# Altium footprint library memory-idt.PCBLIB: 54 footprints (part 1 of 4)
Each footprint in its own frame and in the unit in brackets; x right, y up, seen from the top. Pads: shape width x height; smd on the part's side, far side on the other; paste and mask are expansions set on the pad; w line width, h text height; cw(c..) or ccw(c..) is an arc to the next point about the centre after c.
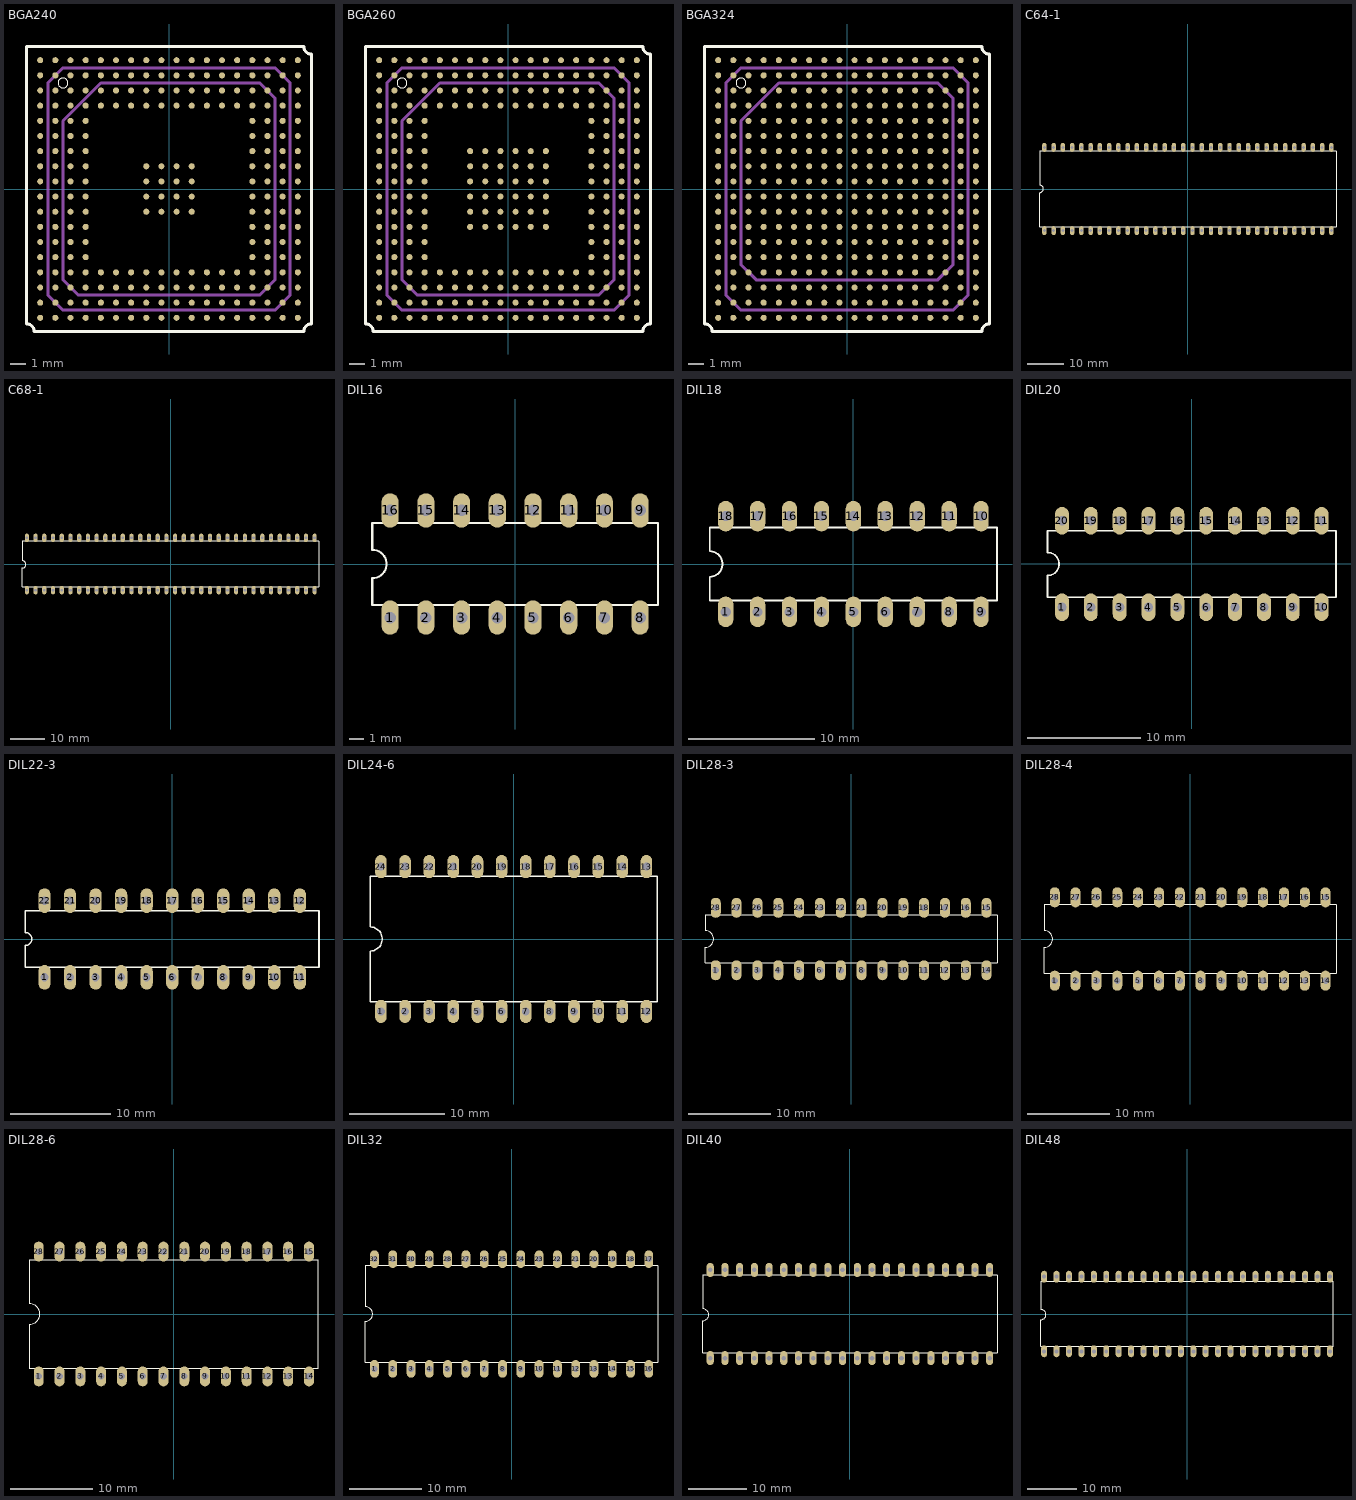
[diagram p0: the footprints below, top view; thin cyan lines are the x and y axes]

## BGA240 [mil]
pads (240):
  rrect100% 15.75x15.75 smd: A1(-334.65,334.65) A2(-295.28,334.65) A3(-255.91,334.65) A4(-216.54,334.65) A5(-177.17,334.65) A6(-137.8,334.65) A7(-98.43,334.65) A8(-59.06,334.65) A9(-19.69,334.65) A10(19.69,334.65) A11(59.06,334.65) A12(98.43,334.65) A13(137.8,334.65) A14(177.17,334.65) A15(216.54,334.65) A16(255.91,334.65) A17(295.28,334.65) A18(334.65,334.65) B1(-334.65,295.28) B2(-295.28,295.28) B3(-255.91,295.28) B4(-216.54,295.28) B5(-177.17,295.28) B6(-137.8,295.28) B7(-98.43,295.28) B8(-59.06,295.28) B9(-19.69,295.28) B10(19.69,295.28) B11(59.06,295.28) B12(98.43,295.28) B13(137.8,295.28) B14(177.17,295.28) B15(216.54,295.28) B16(255.91,295.28) B17(295.28,295.28) B18(334.65,295.28) C1(-334.65,255.91) C2(-295.28,255.91) C3(-255.91,255.91) C4(-216.54,255.91) C5(-177.17,255.91) C6(-137.8,255.91) C7(-98.43,255.91) C8(-59.06,255.91) C9(-19.69,255.91) C10(19.69,255.91) C11(59.06,255.91) C12(98.43,255.91) C13(137.8,255.91) C14(177.17,255.91) C15(216.54,255.91) C16(255.91,255.91) C17(295.28,255.91) C18(334.65,255.91) D1(-334.65,216.54) D2(-295.28,216.54) D3(-255.91,216.54) D4(-216.54,216.54) D5(-177.17,216.54) D6(-137.8,216.54) D7(-98.43,216.54) D8(-59.06,216.54) D9(-19.69,216.54) D10(19.69,216.54) D11(59.06,216.54) D12(98.43,216.54) D13(137.8,216.54) D14(177.17,216.54) D15(216.54,216.54) D16(255.91,216.54) D17(295.28,216.54) D18(334.65,216.54) E1(-334.65,177.17) E2(-295.28,177.17) E3(-255.91,177.17) E4(-216.54,177.17) E15(216.54,177.17) E16(255.91,177.17) E17(295.28,177.17) E18(334.65,177.17) F1(-334.65,137.8) F2(-295.28,137.8) F3(-255.91,137.8) F4(-216.54,137.8) F15(216.54,137.8) F16(255.91,137.8) F17(295.28,137.8) F18(334.65,137.8) G1(-334.65,98.43) G2(-295.28,98.43) G3(-255.91,98.43) G4(-216.54,98.43) G15(216.54,98.43) G16(255.91,98.43) G17(295.28,98.43) G18(334.65,98.43) H1(-334.65,59.06) H2(-295.28,59.06) H3(-255.91,59.06) H4(-216.54,59.06) H8(-59.06,59.06) H9(-19.69,59.06) H10(19.69,59.06) H11(59.06,59.06) H15(216.54,59.06) H16(255.91,59.06) H17(295.28,59.06) H18(334.65,59.06) J1(-334.65,19.69) J2(-295.28,19.69) J3(-255.91,19.69) J4(-216.54,19.69) J8(-59.06,19.69) J9(-19.69,19.69) J10(19.69,19.69) J11(59.06,19.69) J15(216.54,19.69) J16(255.91,19.69) J17(295.28,19.69) J18(334.65,19.69) K1(-334.65,-19.69) K2(-295.28,-19.69) K3(-255.91,-19.69) K4(-216.54,-19.69) K8(-59.06,-19.69) K9(-19.69,-19.69) K10(19.69,-19.69) K11(59.06,-19.69) K15(216.54,-19.69) K16(255.91,-19.69) K17(295.28,-19.69) K18(334.65,-19.69) L1(-334.65,-59.06) L2(-295.28,-59.06) L3(-255.91,-59.06) L4(-216.54,-59.06) L8(-59.06,-59.06) L9(-19.69,-59.06) L10(19.69,-59.06) L11(59.06,-59.06) L15(216.54,-59.06) L16(255.91,-59.06) L17(295.28,-59.06) L18(334.65,-59.06) M1(-334.65,-98.43) M2(-295.28,-98.43) M3(-255.91,-98.43) M4(-216.54,-98.43) M15(216.54,-98.43) M16(255.91,-98.43) M17(295.28,-98.43) M18(334.65,-98.43) N1(-334.65,-137.8) N2(-295.28,-137.8) N3(-255.91,-137.8) N4(-216.54,-137.8) N15(216.54,-137.8) N16(255.91,-137.8) N17(295.28,-137.8) N18(334.65,-137.8) P1(-334.65,-177.17) P2(-295.28,-177.17) P3(-255.91,-177.17) P4(-216.54,-177.17) P15(216.54,-177.17) P16(255.91,-177.17) P17(295.28,-177.17) P18(334.65,-177.17) R1(-334.65,-216.54) R2(-295.28,-216.54) R3(-255.91,-216.54) R4(-216.54,-216.54) R5(-177.17,-216.54) R6(-137.8,-216.54) R7(-98.43,-216.54) R8(-59.06,-216.54) R9(-19.69,-216.54) R10(19.69,-216.54) R11(59.06,-216.54) R12(98.43,-216.54) R13(137.8,-216.54) R14(177.17,-216.54) R15(216.54,-216.54) R16(255.91,-216.54) R17(295.28,-216.54) R18(334.65,-216.54) T1(-334.65,-255.91) T2(-295.28,-255.91) T3(-255.91,-255.91) T4(-216.54,-255.91) T5(-177.17,-255.91) T6(-137.8,-255.91) T7(-98.43,-255.91) T8(-59.06,-255.91) T9(-19.69,-255.91) T10(19.69,-255.91) T11(59.06,-255.91) T12(98.43,-255.91) T13(137.8,-255.91) T14(177.17,-255.91) T15(216.54,-255.91) T16(255.91,-255.91) T17(295.28,-255.91) T18(334.65,-255.91) U1(-334.65,-295.28) U2(-295.28,-295.28) U3(-255.91,-295.28) U4(-216.54,-295.28) U5(-177.17,-295.28) U6(-137.8,-295.28) U7(-98.43,-295.28) U8(-59.06,-295.28) U9(-19.69,-295.28) U10(19.69,-295.28) U11(59.06,-295.28) U12(98.43,-295.28) U13(137.8,-295.28) U14(177.17,-295.28) U15(216.54,-295.28) U16(255.91,-295.28) U17(295.28,-295.28) U18(334.65,-295.28) V1(-334.65,-334.65) V2(-295.28,-334.65) V3(-255.91,-334.65) V4(-216.54,-334.65) V5(-177.17,-334.65) V6(-137.8,-334.65) V7(-98.43,-334.65) V8(-59.06,-334.65) V9(-19.69,-334.65) V10(19.69,-334.65) V11(59.06,-334.65) V12(98.43,-334.65) V13(137.8,-334.65) V14(177.17,-334.65) V15(216.54,-334.65) V16(255.91,-334.65) V17(295.28,-334.65) V18(334.65,-334.65)
Top Overlay:
  circle w0: c-275.59,275.59 r12.83
  lines w8: -370.08,-350.39 -370.08,370.08 350.39,370.08 ccw(c370.08,370.08) 370.08,350.39 370.08,-350.39 ccw(c370.08,-370.08) 350.39,-370.08 -350.39,-370.08 ccw(c-370.08,-370.08) -370.08,-350.39
Top Solder:
  drawing of 240 lines, arcs and shapes, not listed
Mechanical 16:
  lines w8: -314.96,-275.59 -314.96,275.59 -275.59,314.96 275.59,314.96 314.96,275.59 314.96,-275.59 275.59,-314.96 -275.59,-314.96 -314.96,-275.59 ; -275.59,-236.22 -275.59,177.17 -177.17,275.59 236.22,275.59 275.59,236.22 275.59,-236.22 236.22,-275.59 -236.22,-275.59 -275.59,-236.22

## BGA260 [mil]
pads (260):
  rrect100% 15.75x15.75 smd: A1(-334.65,334.65) A2(-295.28,334.65) A3(-255.91,334.65) A4(-216.54,334.65) A5(-177.17,334.65) A6(-137.8,334.65) A7(-98.43,334.65) A8(-59.06,334.65) A9(-19.69,334.65) A10(19.69,334.65) A11(59.06,334.65) A12(98.43,334.65) A13(137.8,334.65) A14(177.17,334.65) A15(216.54,334.65) A16(255.91,334.65) A17(295.28,334.65) A18(334.65,334.65) B1(-334.65,295.28) B2(-295.28,295.28) B3(-255.91,295.28) B4(-216.54,295.28) B5(-177.17,295.28) B6(-137.8,295.28) B7(-98.43,295.28) B8(-59.06,295.28) B9(-19.69,295.28) B10(19.69,295.28) B11(59.06,295.28) B12(98.43,295.28) B13(137.8,295.28) B14(177.17,295.28) B15(216.54,295.28) B16(255.91,295.28) B17(295.28,295.28) B18(334.65,295.28) C1(-334.65,255.91) C2(-295.28,255.91) C3(-255.91,255.91) C4(-216.54,255.91) C5(-177.17,255.91) C6(-137.8,255.91) C7(-98.43,255.91) C8(-59.06,255.91) C9(-19.69,255.91) C10(19.69,255.91) C11(59.06,255.91) C12(98.43,255.91) C13(137.8,255.91) C14(177.17,255.91) C15(216.54,255.91) C16(255.91,255.91) C17(295.28,255.91) C18(334.65,255.91) D1(-334.65,216.54) D2(-295.28,216.54) D3(-255.91,216.54) D4(-216.54,216.54) D5(-177.17,216.54) D6(-137.8,216.54) D7(-98.43,216.54) D8(-59.06,216.54) D9(-19.69,216.54) D10(19.69,216.54) D11(59.06,216.54) D12(98.43,216.54) D13(137.8,216.54) D14(177.17,216.54) D15(216.54,216.54) D16(255.91,216.54) D17(295.28,216.54) D18(334.65,216.54) E1(-334.65,177.17) E2(-295.28,177.17) E3(-255.91,177.17) E4(-216.54,177.17) E15(216.54,177.17) E16(255.91,177.17) E17(295.28,177.17) E18(334.65,177.17) F1(-334.65,137.8) F2(-295.28,137.8) F3(-255.91,137.8) F4(-216.54,137.8) F15(216.54,137.8) F16(255.91,137.8) F17(295.28,137.8) F18(334.65,137.8) G1(-334.65,98.43) G2(-295.28,98.43) G3(-255.91,98.43) G4(-216.54,98.43) G7(-98.43,98.43) G8(-59.06,98.43) G9(-19.69,98.43) G10(19.69,98.43) G11(59.06,98.43) G12(98.43,98.43) G15(216.54,98.43) G16(255.91,98.43) G17(295.28,98.43) G18(334.65,98.43) H1(-334.65,59.06) H2(-295.28,59.06) H3(-255.91,59.06) H4(-216.54,59.06) H7(-98.43,59.06) H8(-59.06,59.06) H9(-19.69,59.06) H10(19.69,59.06) H11(59.06,59.06) H12(98.43,59.06) H15(216.54,59.06) H16(255.91,59.06) H17(295.28,59.06) H18(334.65,59.06) J1(-334.65,19.69) J2(-295.28,19.69) J3(-255.91,19.69) J4(-216.54,19.69) J7(-98.43,19.69) J8(-59.06,19.69) J9(-19.69,19.69) J10(19.69,19.69) J11(59.06,19.69) J12(98.43,19.69) J15(216.54,19.69) J16(255.91,19.69) J17(295.28,19.69) J18(334.65,19.69) K1(-334.65,-19.69) K2(-295.28,-19.69) K3(-255.91,-19.69) K4(-216.54,-19.69) K7(-98.43,-19.69) K8(-59.06,-19.69) K9(-19.69,-19.69) K10(19.69,-19.69) K11(59.06,-19.69) K12(98.43,-19.69) K15(216.54,-19.69) K16(255.91,-19.69) K17(295.28,-19.69) K18(334.65,-19.69) L1(-334.65,-59.06) L2(-295.28,-59.06) L3(-255.91,-59.06) L4(-216.54,-59.06) L7(-98.43,-59.06) L8(-59.06,-59.06) L9(-19.69,-59.06) L10(19.69,-59.06) L11(59.06,-59.06) L12(98.43,-59.06) L15(216.54,-59.06) L16(255.91,-59.06) L17(295.28,-59.06) L18(334.65,-59.06) M1(-334.65,-98.43) M2(-295.28,-98.43) M3(-255.91,-98.43) M4(-216.54,-98.43) M7(-98.43,-98.43) M8(-59.06,-98.43) M9(-19.69,-98.43) M10(19.69,-98.43) M11(59.06,-98.43) M12(98.43,-98.43) M15(216.54,-98.43) M16(255.91,-98.43) M17(295.28,-98.43) M18(334.65,-98.43) N1(-334.65,-137.8) N2(-295.28,-137.8) N3(-255.91,-137.8) N4(-216.54,-137.8) N15(216.54,-137.8) N16(255.91,-137.8) N17(295.28,-137.8) N18(334.65,-137.8) P1(-334.65,-177.17) P2(-295.28,-177.17) P3(-255.91,-177.17) P4(-216.54,-177.17) P15(216.54,-177.17) P16(255.91,-177.17) P17(295.28,-177.17) P18(334.65,-177.17) R1(-334.65,-216.54) R2(-295.28,-216.54) R3(-255.91,-216.54) R4(-216.54,-216.54) R5(-177.17,-216.54) R6(-137.8,-216.54) R7(-98.43,-216.54) R8(-59.06,-216.54) R9(-19.69,-216.54) R10(19.69,-216.54) R11(59.06,-216.54) R12(98.43,-216.54) R13(137.8,-216.54) R14(177.17,-216.54) R15(216.54,-216.54) R16(255.91,-216.54) R17(295.28,-216.54) R18(334.65,-216.54) T1(-334.65,-255.91) T2(-295.28,-255.91) T3(-255.91,-255.91) T4(-216.54,-255.91) T5(-177.17,-255.91) T6(-137.8,-255.91) T7(-98.43,-255.91) T8(-59.06,-255.91) T9(-19.69,-255.91) T10(19.69,-255.91) T11(59.06,-255.91) T12(98.43,-255.91) T13(137.8,-255.91) T14(177.17,-255.91) T15(216.54,-255.91) T16(255.91,-255.91) T17(295.28,-255.91) T18(334.65,-255.91) U1(-334.65,-295.28) U2(-295.28,-295.28) U3(-255.91,-295.28) U4(-216.54,-295.28) U5(-177.17,-295.28) U6(-137.8,-295.28) U7(-98.43,-295.28) U8(-59.06,-295.28) U9(-19.69,-295.28) U10(19.69,-295.28) U11(59.06,-295.28) U12(98.43,-295.28) U13(137.8,-295.28) U14(177.17,-295.28) U15(216.54,-295.28) U16(255.91,-295.28) U17(295.28,-295.28) U18(334.65,-295.28) V1(-334.65,-334.65) V2(-295.28,-334.65) V3(-255.91,-334.65) V4(-216.54,-334.65) V5(-177.17,-334.65) V6(-137.8,-334.65) V7(-98.43,-334.65) V8(-59.06,-334.65) V9(-19.69,-334.65) V10(19.69,-334.65) V11(59.06,-334.65) V12(98.43,-334.65) V13(137.8,-334.65) V14(177.17,-334.65) V15(216.54,-334.65) V16(255.91,-334.65) V17(295.28,-334.65) V18(334.65,-334.65)
Top Overlay:
  circle w0: c-275.59,275.59 r12.83
  lines w8: -370.08,-350.39 -370.08,370.08 350.39,370.08 ccw(c370.08,370.08) 370.08,350.39 370.08,-350.39 ccw(c370.08,-370.08) 350.39,-370.08 -350.39,-370.08 ccw(c-370.08,-370.08) -370.08,-350.39
Top Solder:
  drawing of 260 lines, arcs and shapes, not listed
Mechanical 16:
  lines w8: -314.96,-275.59 -314.96,275.59 -275.59,314.96 275.59,314.96 314.96,275.59 314.96,-275.59 275.59,-314.96 -275.59,-314.96 -314.96,-275.59 ; -275.59,-236.22 -275.59,177.17 -177.17,275.59 236.22,275.59 275.59,236.22 275.59,-236.22 236.22,-275.59 -236.22,-275.59 -275.59,-236.22

## BGA324 [mil]
pads (324):
  rrect100% 15.75x15.75 smd: A1(-334.65,334.65) A2(-295.28,334.65) A3(-255.91,334.65) A4(-216.54,334.65) A5(-177.17,334.65) A6(-137.8,334.65) A7(-98.43,334.65) A8(-59.06,334.65) A9(-19.69,334.65) A10(19.69,334.65) A11(59.06,334.65) A12(98.43,334.65) A13(137.8,334.65) A14(177.17,334.65) A15(216.54,334.65) A16(255.91,334.65) A17(295.28,334.65) A18(334.65,334.65) B1(-334.65,295.28) B2(-295.28,295.28) B3(-255.91,295.28) B4(-216.54,295.28) B5(-177.17,295.28) B6(-137.8,295.28) B7(-98.43,295.28) B8(-59.06,295.28) B9(-19.69,295.28) B10(19.69,295.28) B11(59.06,295.28) B12(98.43,295.28) B13(137.8,295.28) B14(177.17,295.28) B15(216.54,295.28) B16(255.91,295.28) B17(295.28,295.28) B18(334.65,295.28) C1(-334.65,255.91) C2(-295.28,255.91) C3(-255.91,255.91) C4(-216.54,255.91) C5(-177.17,255.91) C6(-137.8,255.91) C7(-98.43,255.91) C8(-59.06,255.91) C9(-19.69,255.91) C10(19.69,255.91) C11(59.06,255.91) C12(98.43,255.91) C13(137.8,255.91) C14(177.17,255.91) C15(216.54,255.91) C16(255.91,255.91) C17(295.28,255.91) C18(334.65,255.91) D1(-334.65,216.54) D2(-295.28,216.54) D3(-255.91,216.54) D4(-216.54,216.54) D5(-177.17,216.54) D6(-137.8,216.54) D7(-98.43,216.54) D8(-59.06,216.54) D9(-19.69,216.54) D10(19.69,216.54) D11(59.06,216.54) D12(98.43,216.54) D13(137.8,216.54) D14(177.17,216.54) D15(216.54,216.54) D16(255.91,216.54) D17(295.28,216.54) D18(334.65,216.54) E1(-334.65,177.17) E2(-295.28,177.17) E3(-255.91,177.17) E4(-216.54,177.17) E5(-177.17,177.17) E6(-137.8,177.17) E7(-98.43,177.17) E8(-59.06,177.17) E9(-19.69,177.17) E10(19.69,177.17) E11(59.06,177.17) E12(98.43,177.17) E13(137.8,177.17) E14(177.17,177.17) E15(216.54,177.17) E16(255.91,177.17) E17(295.28,177.17) E18(334.65,177.17) F1(-334.65,137.8) F2(-295.28,137.8) F3(-255.91,137.8) F4(-216.54,137.8) F5(-177.17,137.8) F6(-137.8,137.8) F7(-98.43,137.8) F8(-59.06,137.8) F9(-19.69,137.8) F10(19.69,137.8) F11(59.06,137.8) F12(98.43,137.8) F13(137.8,137.8) F14(177.17,137.8) F15(216.54,137.8) F16(255.91,137.8) F17(295.28,137.8) F18(334.65,137.8) G1(-334.65,98.43) G2(-295.28,98.43) G3(-255.91,98.43) G4(-216.54,98.43) G5(-177.17,98.43) G6(-137.8,98.43) G7(-98.43,98.43) G8(-59.06,98.43) G9(-19.69,98.43) G10(19.69,98.43) G11(59.06,98.43) G12(98.43,98.43) G13(137.8,98.43) G14(177.17,98.43) G15(216.54,98.43) G16(255.91,98.43) G17(295.28,98.43) G18(334.65,98.43) H1(-334.65,59.06) H2(-295.28,59.06) H3(-255.91,59.06) H4(-216.54,59.06) H5(-177.17,59.06) H6(-137.8,59.06) H7(-98.43,59.06) H8(-59.06,59.06) H9(-19.69,59.06) H10(19.69,59.06) H11(59.06,59.06) H12(98.43,59.06) H13(137.8,59.06) H14(177.17,59.06) H15(216.54,59.06) H16(255.91,59.06) H17(295.28,59.06) H18(334.65,59.06) J1(-334.65,19.69) J2(-295.28,19.69) J3(-255.91,19.69) J4(-216.54,19.69) J5(-177.17,19.69) J6(-137.8,19.69) J7(-98.43,19.69) J8(-59.06,19.69) J9(-19.69,19.69) J10(19.69,19.69) J11(59.06,19.69) J12(98.43,19.69) J13(137.8,19.69) J14(177.17,19.69) J15(216.54,19.69) J16(255.91,19.69) J17(295.28,19.69) J18(334.65,19.69) K1(-334.65,-19.69) K2(-295.28,-19.69) K3(-255.91,-19.69) K4(-216.54,-19.69) K5(-177.17,-19.69) K6(-137.8,-19.69) K7(-98.43,-19.69) K8(-59.06,-19.69) K9(-19.69,-19.69) K10(19.69,-19.69) K11(59.06,-19.69) K12(98.43,-19.69) K13(137.8,-19.69) K14(177.17,-19.69) K15(216.54,-19.69) K16(255.91,-19.69) K17(295.28,-19.69) K18(334.65,-19.69) L1(-334.65,-59.06) L2(-295.28,-59.06) L3(-255.91,-59.06) L4(-216.54,-59.06) L5(-177.17,-59.06) L6(-137.8,-59.06) L7(-98.43,-59.06) L8(-59.06,-59.06) L9(-19.69,-59.06) L10(19.69,-59.06) L11(59.06,-59.06) L12(98.43,-59.06) L13(137.8,-59.06) L14(177.17,-59.06) L15(216.54,-59.06) L16(255.91,-59.06) L17(295.28,-59.06) L18(334.65,-59.06) M1(-334.65,-98.43) M2(-295.28,-98.43) M3(-255.91,-98.43) M4(-216.54,-98.43) M5(-177.17,-98.43) M6(-137.8,-98.43) M7(-98.43,-98.43) M8(-59.06,-98.43) M9(-19.69,-98.43) M10(19.69,-98.43) M11(59.06,-98.43) M12(98.43,-98.43) M13(137.8,-98.43) M14(177.17,-98.43) M15(216.54,-98.43) M16(255.91,-98.43) M17(295.28,-98.43) M18(334.65,-98.43) N1(-334.65,-137.8) N2(-295.28,-137.8) N3(-255.91,-137.8) N4(-216.54,-137.8) N5(-177.17,-137.8) N6(-137.8,-137.8) N7(-98.43,-137.8) N8(-59.06,-137.8) N9(-19.69,-137.8) N10(19.69,-137.8) N11(59.06,-137.8) N12(98.43,-137.8) N13(137.8,-137.8) N14(177.17,-137.8) N15(216.54,-137.8) N16(255.91,-137.8) N17(295.28,-137.8) N18(334.65,-137.8) P1(-334.65,-177.17) P2(-295.28,-177.17) P3(-255.91,-177.17) P4(-216.54,-177.17) P5(-177.17,-177.17) P6(-137.8,-177.17) P7(-98.43,-177.17) P8(-59.06,-177.17) P9(-19.69,-177.17) P10(19.69,-177.17) P11(59.06,-177.17) P12(98.43,-177.17) P13(137.8,-177.17) P14(177.17,-177.17) P15(216.54,-177.17) P16(255.91,-177.17) P17(295.28,-177.17) P18(334.65,-177.17) R1(-334.65,-216.54) R2(-295.28,-216.54) R3(-255.91,-216.54) R4(-216.54,-216.54) R5(-177.17,-216.54) R6(-137.8,-216.54) R7(-98.43,-216.54) R8(-59.06,-216.54) R9(-19.69,-216.54) R10(19.69,-216.54) R11(59.06,-216.54) R12(98.43,-216.54) R13(137.8,-216.54) R14(177.17,-216.54) R15(216.54,-216.54) R16(255.91,-216.54) R17(295.28,-216.54) R18(334.65,-216.54) T1(-334.65,-255.91) T2(-295.28,-255.91) T3(-255.91,-255.91) T4(-216.54,-255.91) T5(-177.17,-255.91) T6(-137.8,-255.91) T7(-98.43,-255.91) T8(-59.06,-255.91) T9(-19.69,-255.91) T10(19.69,-255.91) T11(59.06,-255.91) T12(98.43,-255.91) T13(137.8,-255.91) T14(177.17,-255.91) T15(216.54,-255.91) T16(255.91,-255.91) T17(295.28,-255.91) T18(334.65,-255.91) U1(-334.65,-295.28) U2(-295.28,-295.28) U3(-255.91,-295.28) U4(-216.54,-295.28) U5(-177.17,-295.28) U6(-137.8,-295.28) U7(-98.43,-295.28) U8(-59.06,-295.28) U9(-19.69,-295.28) U10(19.69,-295.28) U11(59.06,-295.28) U12(98.43,-295.28) U13(137.8,-295.28) U14(177.17,-295.28) U15(216.54,-295.28) U16(255.91,-295.28) U17(295.28,-295.28) U18(334.65,-295.28) V1(-334.65,-334.65) V2(-295.28,-334.65) V3(-255.91,-334.65) V4(-216.54,-334.65) V5(-177.17,-334.65) V6(-137.8,-334.65) V7(-98.43,-334.65) V8(-59.06,-334.65) V9(-19.69,-334.65) V10(19.69,-334.65) V11(59.06,-334.65) V12(98.43,-334.65) V13(137.8,-334.65) V14(177.17,-334.65) V15(216.54,-334.65) V16(255.91,-334.65) V17(295.28,-334.65) V18(334.65,-334.65)
Top Overlay:
  circle w0: c-275.59,275.59 r12.83
  lines w8: -370.08,-350.39 -370.08,370.08 350.39,370.08 ccw(c370.08,370.08) 370.08,350.39 370.08,-350.39 ccw(c370.08,-370.08) 350.39,-370.08 -350.39,-370.08 ccw(c-370.08,-370.08) -370.08,-350.39
Top Solder:
  drawing of 324 lines, arcs and shapes, not listed
Mechanical 16:
  lines w8: -314.96,-275.59 -314.96,275.59 -275.59,314.96 275.59,314.96 314.96,275.59 314.96,-275.59 275.59,-314.96 -275.59,-314.96 -314.96,-275.59 ; -275.59,-196.85 -275.59,177.17 -177.17,275.59 236.22,275.59 275.59,236.22 275.59,-196.85 236.22,-236.22 -236.22,-236.22 -275.59,-196.85

## C64-1 [mil]
pads (64):
  oval 48x96 hole 32: 1(-1550,-450) 2(-1450,-450) 3(-1350,-450) 4(-1250,-450) 5(-1150,-450) 6(-1050,-450) 7(-950,-450) 8(-850,-450) 9(-750,-450) 10(-650,-450) 11(-550,-450) 12(-450,-450) 13(-350,-450) 14(-250,-450) 15(-150,-450) 16(-50,-450) 17(50,-450) 18(150,-450) 19(250,-450) 20(350,-450) 21(450,-450) 22(550,-450) 23(650,-450) 24(750,-450) 25(850,-450) 26(950,-450) 27(1050,-450) 28(1150,-450) 29(1250,-450) 30(1350,-450) 31(1450,-450) 32(1550,-450) 33(1550,450) 34(1450,450) 35(1350,450) 36(1250,450) 37(1150,450) 38(1050,450) 39(950,450) 40(850,450) 41(750,450) 42(650,450) 43(550,450) 44(450,450) 45(350,450) 46(250,450) 47(150,450) 48(50,450) 49(-50,450) 50(-150,450) 51(-250,450) 52(-350,450) 53(-450,450) 54(-550,450) 55(-650,450) 56(-750,450) 57(-850,450) 58(-950,450) 59(-1050,450) 60(-1150,450) 61(-1250,450) 62(-1350,450) 63(-1450,450) 64(-1550,450)
Top Overlay:
  lines w6: -1600,-410 1600,-410 1600,410 -1600,410 -1600,41.26 cw(c-1600,1.26) -1600,-38.74 -1600,-410

## C68-1 [mil]
pads (68):
  oval 48x96 hole 32: 1(-1650,-300) 2(-1550,-300) 3(-1450,-300) 4(-1350,-300) 5(-1250,-300) 6(-1150,-300) 7(-1050,-300) 8(-950,-300) 9(-850,-300) 10(-750,-300) 11(-650,-300) 12(-550,-300) 13(-450,-300) 14(-350,-300) 15(-250,-300) 16(-150,-300) 17(-50,-300) 18(50,-300) 19(150,-300) 20(250,-300) 21(350,-300) 22(450,-300) 23(550,-300) 24(650,-300) 25(750,-300) 26(850,-300) 27(950,-300) 28(1050,-300) 29(1150,-300) 30(1250,-300) 31(1350,-300) 32(1450,-300) 33(1550,-300) 34(1650,-300) 35(1650,300) 36(1550,300) 37(1450,300) 38(1350,300) 39(1250,300) 40(1150,300) 41(1050,300) 42(950,300) 43(850,300) 44(750,300) 45(650,300) 46(550,300) 47(450,300) 48(350,300) 49(250,300) 50(150,300) 51(50,300) 52(-50,300) 53(-150,300) 54(-250,300) 55(-350,300) 56(-450,300) 57(-550,300) 58(-650,300) 59(-750,300) 60(-850,300) 61(-950,300) 62(-1050,300) 63(-1150,300) 64(-1250,300) 65(-1350,300) 66(-1450,300) 67(-1550,300) 68(-1650,300)
Top Overlay:
  lines w6: -1700,-260 1700,-260 1700,260 -1700,260 -1700,35 cw(c-1700,-5) -1700,-45 -1700,-260

## DIL16 [mil]
pads (16):
  oval 48x96 hole 32: 1(-350,-150) 2(-250,-150) 3(-150,-150) 4(-50,-150) 5(50,-150) 6(150,-150) 7(250,-150) 8(350,-150) 9(350,150) 10(250,150) 11(150,150) 12(50,150) 13(-50,150) 14(-150,150) 15(-250,150) 16(-350,150)
Top Overlay:
  lines w6: -400,-115 400,-115 400,115 -400,115 -400,40 cw(c-400,0) -400,-40 -400,-115

## DIL18 [mil]
pads (18):
  oval 48x96 hole 32: 1(-400,-150) 2(-300,-150) 3(-200,-150) 4(-100,-150) 5(0,-150) 6(100,-150) 7(200,-150) 8(300,-150) 9(400,-150) 10(400,150) 11(300,150) 12(200,150) 13(100,150) 14(0,150) 15(-100,150) 16(-200,150) 17(-300,150) 18(-400,150)
Top Overlay:
  lines w6: -450,-115 450,-115 450,115 -450,115 -450,40 cw(c-450,0) -450,-40 -450,-115

## DIL20 [mil]
pads (20):
  oval 48x96 hole 32: 1(-450,-150) 2(-350,-150) 3(-250,-150) 4(-150,-150) 5(-50,-150) 6(50,-150) 7(150,-150) 8(250,-150) 9(350,-150) 10(450,-150) 11(450,150) 12(350,150) 13(250,150) 14(150,150) 15(50,150) 16(-50,150) 17(-150,150) 18(-250,150) 19(-350,150) 20(-450,150)
Top Overlay:
  lines w6: -500,-115 500,-115 500,115 -500,115 -500,40 cw(c-500,0) -500,-40 -500,-115

## DIL22-3 [mil]
pads (22):
  oval 48x96 hole 32: 1(-500,-150) 2(-400,-150) 3(-300,-150) 4(-200,-150) 5(-100,-150) 6(0,-150) 7(100,-150) 8(200,-150) 9(300,-150) 10(400,-150) 11(500,-150) 12(500,150) 13(400,150) 14(300,150) 15(200,150) 16(100,150) 17(0,150) 18(-100,150) 19(-200,150) 20(-300,150) 21(-400,150) 22(-500,150)
Top Overlay:
  lines w6: -575,-110 -575,-25 ccw(c-575,0) -575,25 -575,110 575,110 575,-110 -575,-110

## DIL24-6 [mil]
pads (24):
  oval 48x96 hole 32: 1(-550,-300) 2(-450,-300) 3(-350,-300) 4(-250,-300) 5(-150,-300) 6(-50,-300) 7(50,-300) 8(150,-300) 9(250,-300) 10(350,-300) 11(450,-300) 12(550,-300) 13(550,300) 14(450,300) 15(350,300) 16(250,300) 17(150,300) 18(50,300) 19(-50,300) 20(-150,300) 21(-250,300) 22(-350,300) 23(-450,300) 24(-550,300)
Top Overlay:
  lines w6: -595,-260 -595,-50 ccw(c-595,0) -595,50 -595,260 595,260 595,-260 -595,-260

## DIL28-3 [mil]
pads (28):
  oval 48x96 hole 32: 1(-650,-150) 2(-550,-150) 3(-450,-150) 4(-350,-150) 5(-250,-150) 6(-150,-150) 7(-50,-150) 8(50,-150) 9(150,-150) 10(250,-150) 11(350,-150) 12(450,-150) 13(550,-150) 14(650,-150) 15(650,150) 16(550,150) 17(450,150) 18(350,150) 19(250,150) 20(150,150) 21(50,150) 22(-50,150) 23(-150,150) 24(-250,150) 25(-350,150) 26(-450,150) 27(-550,150) 28(-650,150)
Top Overlay:
  lines w6: -700,-115 700,-115 700,115 -700,115 -700,40 cw(c-700,0) -700,-40 -700,-115

## DIL28-4 [mil]
pads (28):
  oval 48x96 hole 32: 1(-650,-200) 2(-550,-200) 3(-450,-200) 4(-350,-200) 5(-250,-200) 6(-150,-200) 7(-50,-200) 8(50,-200) 9(150,-200) 10(250,-200) 11(350,-200) 12(450,-200) 13(550,-200) 14(650,-200) 15(650,200) 16(550,200) 17(450,200) 18(350,200) 19(250,200) 20(150,200) 21(50,200) 22(-50,200) 23(-150,200) 24(-250,200) 25(-350,200) 26(-450,200) 27(-550,200) 28(-650,200)
Top Overlay:
  lines w6: -700,-165 700,-165 700,165 -700,165 -700,40 cw(c-700,0) -700,-40 -700,-165

## DIL28-6 [mil]
pads (28):
  oval 48x96 hole 32: 1(-650,-300) 2(-550,-300) 3(-450,-300) 4(-350,-300) 5(-250,-300) 6(-150,-300) 7(-50,-300) 8(50,-300) 9(150,-300) 10(250,-300) 11(350,-300) 12(450,-300) 13(550,-300) 14(650,-300) 15(650,300) 16(550,300) 17(450,300) 18(350,300) 19(250,300) 20(150,300) 21(50,300) 22(-50,300) 23(-150,300) 24(-250,300) 25(-350,300) 26(-450,300) 27(-550,300) 28(-650,300)
Top Overlay:
  lines w6: -695,-260 -695,-50 ccw(c-695,0) -695,50 -695,260 695,260 695,-260 -695,-260

## DIL32 [mil]
pads (32):
  oval 48x96 hole 32: 1(-750,-300) 2(-650,-300) 3(-550,-300) 4(-450,-300) 5(-350,-300) 6(-250,-300) 7(-150,-300) 8(-50,-300) 9(50,-300) 10(150,-300) 11(250,-300) 12(350,-300) 13(450,-300) 14(550,-300) 15(650,-300) 16(750,-300) 17(750,300) 18(650,300) 19(550,300) 20(450,300) 21(350,300) 22(250,300) 23(150,300) 24(50,300) 25(-50,300) 26(-150,300) 27(-250,300) 28(-350,300) 29(-450,300) 30(-550,300) 31(-650,300) 32(-750,300)
Top Overlay:
  lines w6: -800,-265 800,-265 800,265 -800,265 -800,40 cw(c-800,0) -800,-40 -800,-265

## DIL40 [mil]
pads (40):
  oval 48x96 hole 32: 1(-950,-300) 2(-850,-300) 3(-750,-300) 4(-650,-300) 5(-550,-300) 6(-450,-300) 7(-350,-300) 8(-250,-300) 9(-150,-300) 10(-50,-300) 11(50,-300) 12(150,-300) 13(250,-300) 14(350,-300) 15(450,-300) 16(550,-300) 17(650,-300) 18(750,-300) 19(850,-300) 20(950,-300) 21(950,300) 22(850,300) 23(750,300) 24(650,300) 25(550,300) 26(450,300) 27(350,300) 28(250,300) 29(150,300) 30(50,300) 31(-50,300) 32(-150,300) 33(-250,300) 34(-350,300) 35(-450,300) 36(-550,300) 37(-650,300) 38(-750,300) 39(-850,300) 40(-950,300)
Top Overlay:
  lines w6: -1000,-265 1000,-265 1000,265 -1000,265 -1000,35 cw(c-1000,-5) -1000,-45 -1000,-265

## DIL48 [mil]
pads (48):
  oval 48x96 hole 32: 1(-1150,-300) 2(-1050,-300) 3(-950,-300) 4(-850,-300) 5(-750,-300) 6(-650,-300) 7(-550,-300) 8(-450,-300) 9(-350,-300) 10(-250,-300) 11(-150,-300) 12(-50,-300) 13(50,-300) 14(150,-300) 15(250,-300) 16(350,-300) 17(450,-300) 18(550,-300) 19(650,-300) 20(750,-300) 21(850,-300) 22(950,-300) 23(1050,-300) 24(1150,-300) 25(1150,300) 26(1050,300) 27(950,300) 28(850,300) 29(750,300) 30(650,300) 31(550,300) 32(450,300) 33(350,300) 34(250,300) 35(150,300) 36(50,300) 37(-50,300) 38(-150,300) 39(-250,300) 40(-350,300) 41(-450,300) 42(-550,300) 43(-650,300) 44(-750,300) 45(-850,300) 46(-950,300) 47(-1050,300) 48(-1150,300)
Top Overlay:
  lines w6: -1175,-260 1175,-260 1175,260 -1175,260 -1175,35 cw(c-1175,-5) -1175,-45 -1175,-260